# Altium footprint library JST_ZR.PcbLib: 2 footprints
Each footprint in its own frame and in the unit in brackets; x right, y up, seen from the top. Pads: shape width x height; smd on the part's side, far side on the other; paste and mask are expansions set on the pad; w line width, h text height; cw(c..) or ccw(c..) is an arc to the next point about the centre after c.
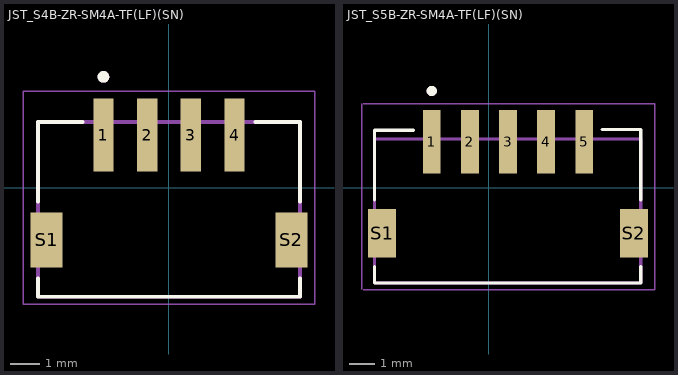
[diagram p0: the footprints below, top view; thin cyan lines are the x and y axes]

## JST_S4B-ZR-SM4A-TF(LF)(SN) [mm]
pads (6):
  rect 0.7x2.5 smd: 1(-2.25,1.8) 2(-0.75,1.8) 3(0.75,1.8) 4(2.25,1.8)
  rect 1.1x1.9 smd: S1(-4.2,-1.8) S2(4.2,-1.8)
Top Overlay:
  circle w0.2: c-2.25,3.8 r0.1
  lines w0.127: -4.5,-3.11 -4.5,-3.75 4.5,-3.75 4.5,-3.11 ; -4.5,-0.49 -4.5,2.25 -2.97,2.25 ; 2.97,2.25 4.5,2.25 4.5,-0.49
Mechanical 13:
  circle w0.2: c-2.25,3.8 r0.1
  lines w0.127: -4.5,-3.75 -4.5,2.25 4.5,2.25 4.5,-3.75 -4.5,-3.75
Mechanical 15:
  lines w0.05: -5,-4 -5,3.3 5,3.3 5,-4 -5,-4
3D body "S4B-ZR-SM4A-TF.STEP": height 3.7, standoff 0, extent -4.445,-3.631 4.555,2.869

## JST_S5B-ZR-SM4A-TF(LF)(SN) [mm]
pads (7):
  rect 0.7x2.5 smd: 1(-2.25,1.8) 2(-0.75,1.8) 3(0.75,1.8) 4(2.25,1.8) 5(3.75,1.8)
  rect 1.1x1.9 smd: S1(-4.2,-1.8) S2(5.7,-1.8)
Top Overlay:
  circle w0.2: c-2.25,3.8 r0.1
  lines w0.127: -4.5,-3.11 -4.5,-3.75 5.969,-3.75 5.969,-3.11 ; -4.5,-0.49 -4.5,2.25 -2.97,2.25 ; 4.445,2.286 5.975,2.286 ; 5.969,-0.49 5.969,2.25
Mechanical 13:
  circle w0.2: c-2.25,3.8 r0.1
  lines w0.127: -4.5,-3.75 -4.5,1.905 5.969,1.905 5.969,-3.75 -4.5,-3.75
Mechanical 15:
  lines w0.05: -5,-4 -5,3.3 ; -4.95,-4.013 6.527,-4.013 6.527,-2.807 6.527,0.747 ; -4.95,3.287 6.527,3.287 6.527,0.747 ; 6.527,-0.854 6.527,0.747
3D body "S5B-ZR-SM4A-TF.STEP": height 3.7, standoff 0, extent -4.488,-3.714 6.012,2.786